# EAGLE library part TPS62733 (library C3-Ti)
Step Down Converter with Bypass Mode for Ultra Low Power Wireless Applications
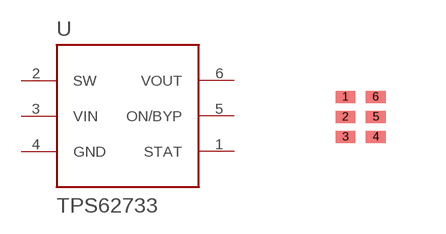
[diagram p5: symbol with the pads of DRY150X105X060-N6; footprint DRY150X105X060-N6]

Designator prefix U

## TPS62733DRY (VIN: 1.9V-3.6V; VOUT: 2.3V)  [DRY150X105X060-N6]
1  STAT  out
2  SW  out
3  VIN  pwr
4  GND  pwr
5  ON/BYP  in
6  VOUT  pwr

## Footprint DRY150X105X060-N6 (pad centres in mm)
DRY (R-PUSON-N6) Plastic Small Outline No-Lead 1.50mm x 1.05mm
smd 0.49 x 0.3: 1 -0.4,0.5; 2 -0.4,0; 3 -0.4,-0.5; 4 0.36,-0.5; 5 0.36,0; 6 0.36,0.5